# Altium footprint library Connector_SATA_SAS.PcbLib: 2 footprints
Each footprint in its own frame and in the unit in brackets; x right, y up, seen from the top. Pads: shape width x height; smd on the part's side, far side on the other; paste and mask are expansions set on the pad; w line width, h text height; cw(c..) or ccw(c..) is an arc to the next point about the centre after c.
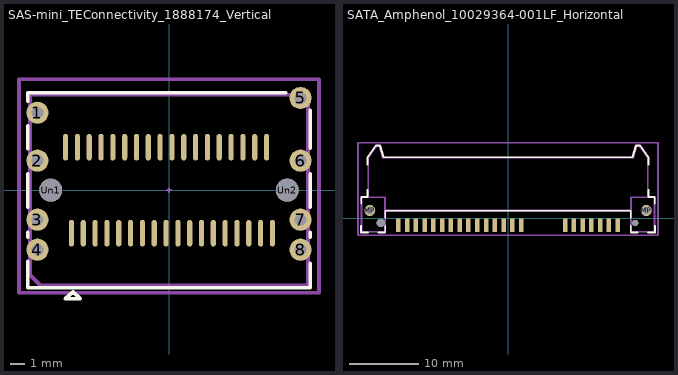
[diagram p0: the footprints below, top view; thin cyan lines are the x and y axes]

## SAS-mini_TEConnectivity_1888174_Vertical [mm]
pads (46):
  round 1.5 hole 0.8: 1(-8.9,5.24) 2(-8.9,2) 3(-8.9,-2) 4(-8.9,-4.03) 5(8.9,6.24) 6(8.9,2) 7(8.9,-2) 8(8.9,-4.03)
  rrect100% 0.35x1.8 smd: A1(-6.6,-2.91) A2(-5.8,-2.91) A3(-5,-2.91) A4(-4.2,-2.91) A5(-3.4,-2.91) A6(-2.6,-2.91) A7(-1.8,-2.91) A8(-1,-2.91) A9(-0.2,-2.91) A10(0.6,-2.91) A11(1.4,-2.91) A12(2.2,-2.91) A13(3,-2.91) A14(3.8,-2.91) A15(4.6,-2.91) A16(5.4,-2.91) A17(6.2,-2.91) A18(7,-2.91) B1(-7,2.91) B2(-6.2,2.91) B3(-5.4,2.91) B4(-4.6,2.91) B5(-3.8,2.91) B6(-3,2.91) B7(-2.2,2.91) B8(-1.4,2.91) B9(-0.6,2.91) B10(0.2,2.91) B11(1,2.91) B12(1.8,2.91) B13(2.6,2.91) B14(3.4,2.91) B15(4.2,2.91) B16(5,2.91) B17(5.8,2.91) B18(6.6,2.91)
  round 1.55 hole 1.55: Un1(-8,0) Un2(8,0)
F.SilkS:
  lines w0.254: -9.55,-4.831 -9.55,-6.6 9.55,-6.6 9.55,-4.94 ; -9.55,-3.19 -9.55,-2.84 ; -9.55,-1.14 -9.55,1.11 ; -9.55,2.81 -9.55,4.36 ; -9.55,6.03 -9.55,6.6 7.9,6.6 ; 9.55,-3.19 9.55,-2.84 ; 9.55,-1.14 9.55,1.11 ; 9.55,2.86 9.55,5.41 ; -7,-7.34 -6.5,-6.89 -6,-7.34 -7,-7.34
Top Component Center:
  lines w0.127: -0.127,0 0.127,0 ; 0,-0.127 0,0.127
Top Assembly:
  lines w0.254: -9.4,-5.74 -8.69,-6.45 9.4,-6.45 9.4,6.45 -9.4,6.45 -9.4,-5.74
  text "'.Designator'" at -4.072,-0.83 h1
Top Courtyard:
  lines w0.254: -10.15,-6.94 10.15,-6.94 10.15,7.5 -10.15,7.5 -10.15,-6.94
Top Designator:
  text ".Designator" at -7.618,-0.428 h1.52

## SATA_Amphenol_10029364-001LF_Horizontal [mm]
pads (26):
  round 1.6 hole 1.2: MP(-20,1.145) MP(20,1.145)
  rect 0.65x1.9 smd: P1(1.905,-0.995) P2(0.635,-0.995) P3(-0.635,-0.995) P4(-1.905,-0.995) P5(-3.175,-0.995) P6(-4.445,-0.995) P7(-5.715,-0.995) P8(-6.985,-0.995) P9(-8.255,-0.995) P10(-9.525,-0.995) P11(-10.795,-0.995) P12(-12.065,-0.995) P13(-13.335,-0.995) P14(-14.605,-0.995) P15(-15.875,-0.995) S1(15.87,-0.995) S2(14.6,-0.995) S3(13.33,-0.995) S4(12.06,-0.995) S5(10.79,-0.995) S6(9.52,-0.995) S7(8.25,-0.995)
  round 1.2 hole 1.2: Un1(-18.4,-0.655)
  round 0.9 hole 0.9: Un2(18.4,-0.655)
F.SilkS:
  lines w0.254: -21.25,-1.055 -21.25,-2.055 -20.25,-2.055 ; -21.24,2.105 -21.24,3.105 -20.33,3.105 -20.33,4.105 ; -20.33,7.785 -20.33,8.785 -19.1,10.545 -18.53,10.545 -18,8.855 18,8.855 18.53,10.545 19.1,10.545 20.33,8.785 20.33,7.785 ; -18.75,-2.055 -17.75,-2.055 -17.75,-1.055 ; -17.75,0.095 -17.75,1.095 17.75,1.095 17.75,0.095 ; 17.75,-1.055 17.75,-2.055 18.773,-2.055 ; 20.25,-2.055 21.25,-2.055 21.25,-1.055 ; 20.33,4.105 20.33,3.105 21.24,3.105 21.24,2.105
Top Assembly:
  lines w0.254: -20.215,3.055 -20.215,8.755 -19.025,10.455 -18.595,10.455 -18.095,8.755 18.095,8.755 18.595,10.455 19.025,10.455 20.215,8.755 20.215,3.055 ; -17.8,1.145 17.8,1.145 ; 17.8,-1.945 21.2,-1.945 ; 17.8,-1.93 17.8,3.055 21.2,3.055 ; 21.2,-1.937 21.2,3.063 ; -21.2,-1.945 -17.8,-1.945 -17.8,3.055 -21.2,3.055 -21.2,-1.945
  text "'.Designator'" at -4.047,-0.84 h1
Top Courtyard:
  lines w0.254: -21.7,-2.45 21.7,-2.45 21.7,10.95 -21.7,10.95 -21.7,-2.45
Top Designator:
  text ".Designator" at -7.618,3.742 h1.52